# Altium schematic symbol library STM32L011x3.SchLib: 1 symbol
Pins are listed as number, name and electrical type; pins without a type are passive.

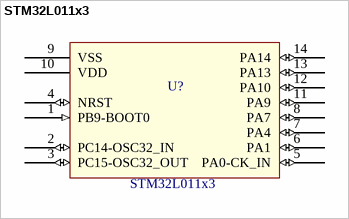
[diagram p0: symbol STM32L011x3]

## STM32L011x3
designator U?
MCU; Manufacturer: ST; Info: only TSSOP14 footprint; Mouser link: *; Value: STM32L011x3
footprint STM32L011x3 (TSSOP14, 14-Leads, Body 5.00x4.40mm, Pitch 0.65mm, IPC Medium Density)
pins: 1 PB9-BOOT0 (in), 2 PC14-OSC32_IN (io), 3 PC15-OSC32_OUT (io), 4 NRST (io), 5 PA0-CK_IN (io), 6 PA1 (io), 7 PA4 (io), 8 PA7 (io), 9 VSS (power), 10 VDD (power), 11 PA9 (io), 12 PA10 (io), 13 PA13 (io), 14 PA14 (io)